# Altium footprint library Lib.PcbLib: 4 footprints
Each footprint in its own frame and in the unit in brackets; x right, y up, seen from the top. Pads: shape width x height; smd on the part's side, far side on the other; paste and mask are expansions set on the pad; w line width, h text height; cw(c..) or ccw(c..) is an arc to the next point about the centre after c.
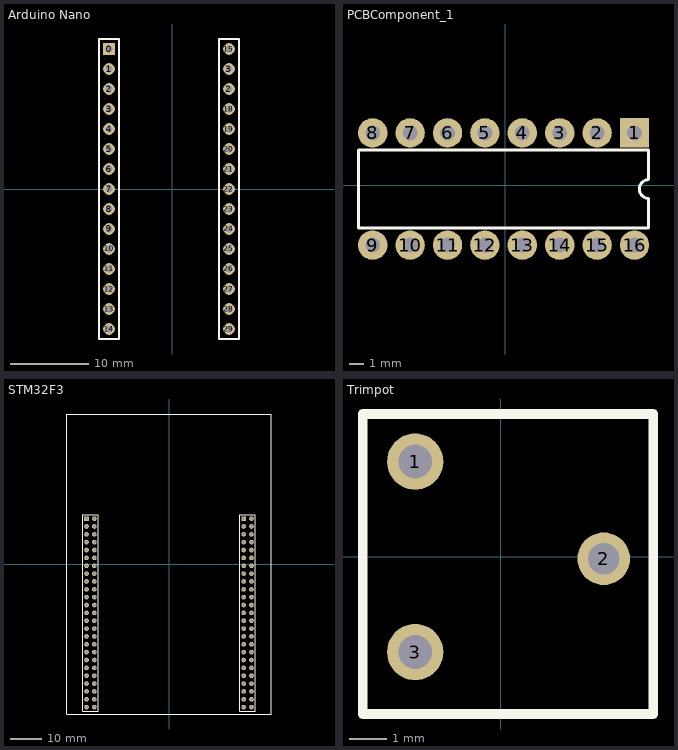
[diagram p0: the footprints below, top view; thin cyan lines are the x and y axes]

## Arduino Nano [mm]
pads (30):
  rect 1.5x1.5 hole 0.9: 0(-8.001,17.78)
  round 1.5 hole 0.9: 1(-8.001,15.24) 2(-8.001,12.7) 2(7.239,12.7) 3(-8.001,10.16) 3(7.239,15.24) 4(-8.001,7.62) 5(-8.001,5.08) 6(-8.001,2.54) 7(-8.001,0) 8(-8.001,-2.54) 9(-8.001,-5.08) 10(-8.001,-7.62) 11(-8.001,-10.16) 12(-8.001,-12.7) 13(-8.001,-15.24) 14(-8.001,-17.78) 15(7.239,17.78) 18(7.239,10.16) 19(7.239,7.62) 20(7.239,5.08) 21(7.239,2.54) 22(7.239,0) 23(7.239,-2.54) 24(7.239,-5.08) 25(7.239,-7.62) 26(7.239,-10.16) 27(7.239,-12.7) 28(7.239,-15.24) 29(7.239,-17.78)
Top Overlay:
  lines w0.2: -9.271,-19.05 -6.731,-19.05 -6.731,17.145 -6.731,19.05 -9.271,19.05 -9.271,-19.05 ; 5.969,-19.05 8.509,-19.05 8.509,17.145 8.509,19.05 5.969,19.05 5.969,-19.05

## PCBComponent_1 [mm]
pads (16):
  rect 2x2 hole 1: 1(8.763,3.556)
  round 2 hole 1: 2(6.223,3.556) 3(3.683,3.556) 4(1.143,3.556) 5(-1.397,3.556) 6(-3.937,3.556) 7(-6.477,3.556) 8(-9.017,3.556) 9(-9.017,-4.064) 10(-6.477,-4.064) 11(-3.937,-4.064) 12(-1.397,-4.064) 13(1.143,-4.064) 14(3.683,-4.064) 15(6.223,-4.064) 16(8.763,-4.064)
Top Overlay:
  lines w0.2: -9.977,-2.904 9.723,-2.904 9.723,-0.889 cw(c9.723,-0.254) 9.723,0.381 9.723,2.396 -9.977,2.396 -9.977,-2.904

## STM32F3 [mm]
pads (100):
  rect 1.5x1.5 hole 0.9: 1(-26.67,14.68) 51(24.13,14.68)
  round 1.5 hole 0.9: 2(-24.13,14.68) 3(-26.67,12.14) 4(-24.13,12.14) 5(-26.67,9.6) 6(-24.13,9.6) 7(-26.67,7.06) 8(-24.13,7.06) 9(-26.67,4.52) 10(-24.13,4.52) 11(-26.67,1.98) 12(-24.13,1.98) 13(-26.67,-0.56) 14(-24.13,-0.56) 15(-26.67,-3.1) 16(-24.13,-3.1) 17(-26.67,-5.64) 18(-24.13,-5.64) 19(-26.67,-8.18) 20(-24.13,-8.18) 21(-26.67,-10.72) 22(-24.13,-10.72) 23(-26.67,-13.26) 24(-24.13,-13.26) 25(-26.67,-15.8) 26(-24.13,-15.8) 27(-26.67,-18.34) 28(-24.13,-18.34) 29(-26.67,-20.88) 30(-24.13,-20.88) 31(-26.67,-23.42) 32(-24.13,-23.42) 33(-26.67,-25.96) 34(-24.13,-25.96) 35(-26.67,-28.5) 36(-24.13,-28.5) 37(-26.67,-31.04) 38(-24.13,-31.04) 39(-26.67,-33.58) 40(-24.13,-33.58) 41(-26.67,-36.12) 42(-24.13,-36.12) 43(-26.67,-38.66) 44(-24.13,-38.66) 45(-26.67,-41.2) 46(-24.13,-41.2) 47(-26.67,-43.74) 48(-24.13,-43.74) 49(-26.67,-46.28) 50(-24.13,-46.28) 52(26.67,14.68) 53(24.13,12.14) 54(26.67,12.14) 55(24.13,9.6) 56(26.67,9.6) 57(24.13,7.06) 58(26.67,7.06) 59(24.13,4.52) 60(26.67,4.52) 61(24.13,1.98) 62(26.67,1.98) 63(24.13,-0.56) 64(26.67,-0.56) 65(24.13,-3.1) 66(26.67,-3.1) 67(24.13,-5.64) 68(26.67,-5.64) 69(24.13,-8.18) 70(26.67,-8.18) 71(24.13,-10.72) 72(26.67,-10.72) 73(24.13,-13.26) 74(26.67,-13.26) 75(24.13,-15.8) 76(26.67,-15.8) 77(24.13,-18.34) 78(26.67,-18.34) 79(24.13,-20.88) 80(26.67,-20.88) 81(24.13,-23.42) 82(26.67,-23.42) 83(24.13,-25.96) 84(26.67,-25.96) 85(24.13,-28.5) 86(26.67,-28.5) 87(24.13,-31.04) 88(26.67,-31.04) 89(24.13,-33.58) 90(26.67,-33.58) 91(24.13,-36.12) 92(26.67,-36.12) 93(24.13,-38.66) 94(26.67,-38.66) 95(24.13,-41.2) 96(26.67,-41.2) 97(24.13,-43.74) 98(26.67,-43.74) 99(24.13,-46.28) 100(26.67,-46.28)
Top Overlay:
  lines w0.2: -33,-48.5 -33,48.5 33,48.5 33,-48.5 -33,-48.5 ; -27.94,-47.55 -22.86,-47.55 -22.86,15.95 -27.94,15.95 -27.94,-47.55 ; 22.86,-47.55 27.94,-47.55 27.94,15.95 22.86,15.95 22.86,-47.55

## Trimpot [mm]
pads (3):
  round 1.5 hole 0.9: 1(-2.286,2.54) 3(-2.286,-2.54)
  round 1.4 hole 0.85: 2(2.744,-0.05)
Top Overlay:
  lines w0.254: -3.683,-4.191 4.064,-4.191 4.064,3.81 -3.683,3.81 -3.683,-4.191